# EAGLE library part CL-340T-SD-T (library Citizen)
赤、緑、青（RGB） 618nm赤、530nm緑、470nm青 LED表示 - ディスクリート 1.85V赤、2.7V緑、2.75V青 5-SMD、リードなし
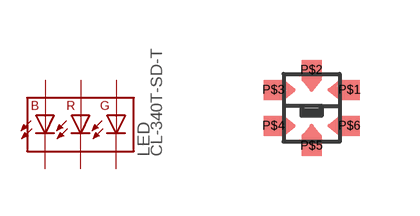
[diagram p0: symbol with the pads of CL-340; footprint CL-340]

Designator prefix LED

## CL-340T-SD-T  [CL-340]
P$1  A_G
P$2  R_A
P$3  B_A
P$4  B_C
P$5  R_C
P$6  G_C

## Footprint CL-340 (pad centres in mm)
smd 0.5 x 0.5: P$1 0.95,0.45; P$2 0,0.95; P$3 -0.95,0.45; P$4 -0.95,-0.45; P$5 0,-0.95; P$6 0.95,-0.45